# Altium schematic symbol library SI8640AB-B-IS.SchLib: 1 symbol
Pins are listed as number, name and electrical type; pins without a type are passive.

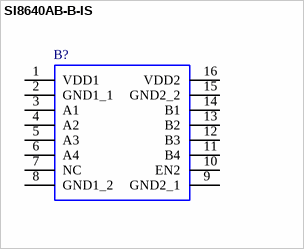
[diagram p0: symbol SI8640AB-B-IS]

## SI8640AB-B-IS
designator B?
DGTL ISO 2500VRMS 4CH GP 16SOIC; Manufacturer_Name: Skyworks; Geometry.Height: 1.75mm; Manufacturer_Part_Number: SI8640AB-B-IS; Mouser Part Number: 634-SI8640AB-B-IS; Mouser Price/Stock: https://www.mouser.co.uk/ProductDetail/Skyworks-Solutions-Inc/SI8640AB-B-IS?qs=j6MGy4L9yX0GpgQO5d7agw%3D%3D; Arrow Part Number: *; Arrow Price/Stock: *; Mouser Testing Part Number: *; Mouser Testing Price/Stock: *; Datasheet Link: https://www.skyworksinc.com/-/media/Skyworks/SL/documents/public/data-sheets/si86xx-1Mbps-datasheet.pdf
footprint SOIC127P600X175-16N
pins: 1 VDD1, 2 GND1_1, 3 A1, 4 A2, 5 A3, 6 A4, 7 NC, 8 GND1_2, 9 GND2_1, 10 EN2, 11 B4, 12 B3, 13 B2, 14 B1, 15 GND2_2, 16 VDD2